# EAGLE library part LTC6804-2 (library HyTechDevices)
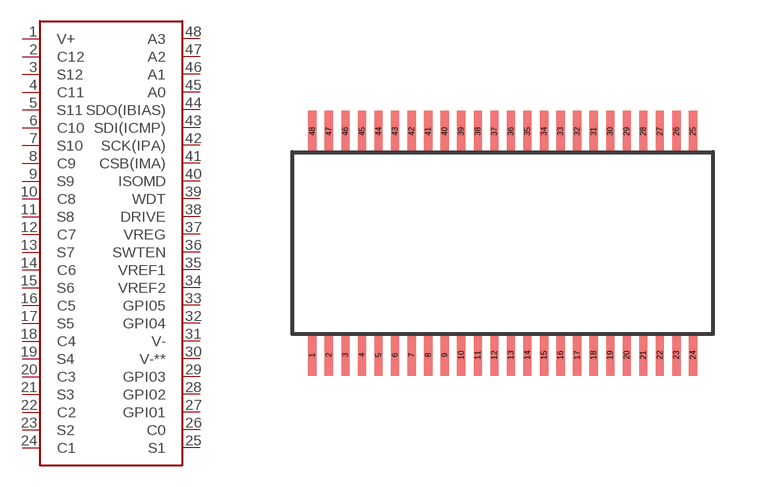
[diagram p36: symbol with the pads of LTC6804; footprint LTC6804]

Designator prefix -

## LTC6804-2  [LTC6804]
1  V+
2  C12
3  S12
4  C11
5  S11
6  C10
7  S10
8  C9
9  S9
10  C8
11  S8
12  C7
13  S7
14  C6
15  S6
16  C5
17  S5
18  C4
19  S4
20  C3
21  S3
22  C2
23  S2
24  C1
25  S1
26  C0
27  GPI01
28  GPI02
29  GPI03
30  V-**
31  V-
32  GPI04
33  GPI05
34  VREF2
35  VREF1
36  SWTEN
37  VREG
38  DRIVE
39  WDT
40  ISOMD
41  CSB(IMA)
42  SCK(IPA)
43  SDI(ICMP)
44  SDO(IBIAS)
45  A0
46  A1
47  A2
48  A3

## Footprint LTC6804 (pad centres in mm)
smd 0.25 x 1.25: 1 -10.5,-0.75; 2 -10,-0.75; 3 -9.5,-0.75; 4 -9,-0.75; 5 -8.5,-0.75; 6 -8,-0.75; 7 -7.5,-0.75; 8 -7,-0.75; 9 -6.5,-0.75; 10 -6,-0.75; 11 -5.5,-0.75; 12 -5,-0.75; 13 -4.5,-0.75; 14 -4,-0.75; 15 -3.5,-0.75; 16 -3,-0.75; 17 -2.5,-0.75; 18 -2,-0.75; 19 -1.5,-0.75; 20 -1,-0.75; 21 -0.5,-0.75; 22 0,-0.75; 23 0.5,-0.75; 24 1,-0.75; 25 1,6; 26 0.5,6; 27 0,6; 28 -0.5,6; 29 -1,6; 30 -1.5,6; 31 -2,6; 32 -2.5,6; 33 -3,6; 34 -3.5,6; 35 -4,6; 36 -4.5,6; 37 -5,6; 38 -5.5,6; 39 -6,6; 40 -6.5,6; 41 -7,6; 42 -7.5,6; 43 -8,6; 44 -8.5,6; 45 -9,6; 46 -9.5,6; 47 -10,6; 48 -10.5,6